# EAGLE library part PINHEAD_PINHD-2X3 (library custom)
PIN HEADER
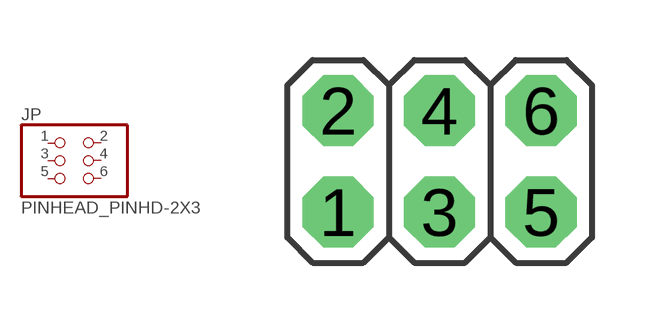
[diagram p18: symbol with the pads of PINHEAD_2X03; footprint PINHEAD_2X03]

Designator prefix JP

## PINHEAD_PINHD-2X3  [PINHEAD_2X03]
1  1  pas
2  2  pas
3  3  pas
4  4  pas
5  5  pas
6  6  pas

## Footprint PINHEAD_2X03 (pad centres in mm)
PIN HEADER
drill 1.016 pad 1.778 octagon: 1 -2.54,-1.27; 2 -2.54,1.27; 3 0,-1.27; 4 0,1.27; 5 2.54,-1.27; 6 2.54,1.27